# Altium schematic symbol library MAX30102_Adapter.SchLib: 1 symbol
Pins are listed as number, name and electrical type; pins without a type are passive.

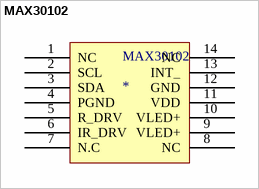
[diagram p0: symbol MAX30102]

## MAX30102
designator MAX30102
footprint MAX30102
pins: 1 NC, 2 SCL, 3 SDA, 4 PGND, 5 R_DRV, 6 IR_DRV, 7 N.C, 8 NC, 9 VLED+, 10 VLED+, 11 VDD, 12 GND, 13 INT_, 14 NC